# EAGLE library part PAM2306 (library airball)
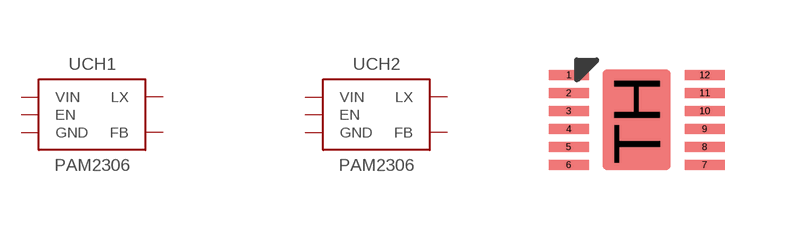
[diagram p7: symbol with the pads of WDFN12; footprint WDFN12]

Designator prefix U; gates CH1=PAM2306_HALF CH2=PAM2306_HALF

## PAM2306  [WDFN12]
1  CH2:VIN  in
2  CH2:LX  in
3  CH2:GND  in
4  CH1:FB  in
6  CH1:EN  in
7  CH1:VIN  in
8  CH1:LX  in
9  CH1:GND  in
10  CH2:FB  in
12  CH2:EN  in
TH  CH1:GND  in

## Footprint WDFN12 (pad centres in mm)
smd 1 x 0.25: 1 -1.7,1.125; 2 -1.7,0.675; 3 -1.7,0.225; 4 -1.7,-0.225; 5 -1.7,-0.675; 6 -1.7,-1.125; 7 1.7,-1.125; 8 1.7,-0.675; 9 1.7,-0.225; 10 1.7,0.225; 11 1.7,0.675; 12 1.7,1.125
smd 1.7 x 2.5: TH 0,0